# Altium schematic symbol library DF_ESC_Symbol_Library.SchLib: 21 symbols
Pins are listed as number, name and electrical type; pins without a type are passive.

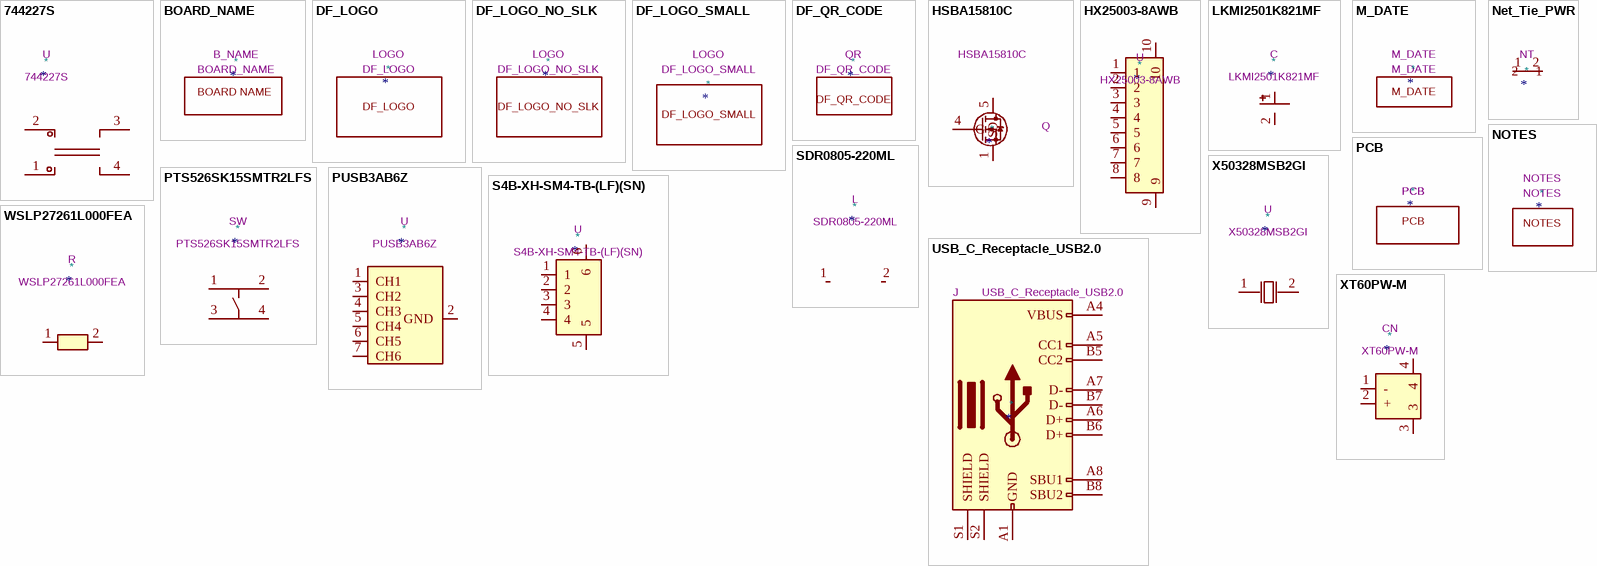
[diagram p0: symbols 744227S to XT60PW-M]

## 744227S
designator *  value 744227S  Reference: U
ki_keywords: C2651119; Footprint: DF_ESC_Footprint_Library:FILTER-SMD_4P-L9.2-W6.0-P2.54-TL; Datasheet: https://atta.szlcsc.com/upload/public/pdf/source/20210606/441BFA25F38C4022E6E8CBF6F4FC27DA.pdf; LCSC: C2651119
pins: 1, 2, 3, 4

## BOARD_NAME
designator *  value BOARD_NAME  Reference: B_NAME
text: BOARD NAME

## DF_LOGO
designator *  value DF_LOGO  Reference: LOGO
Footprint: DF_ESC_Footprint_Library:DF_ESC_REV01_1_LOGO

## DF_LOGO_NO_SLK
designator *  value DF_LOGO_NO_SLK  Reference: LOGO
Footprint: DF_ESC_Footprint_Library:DF_LOGO_NO_SLK

## DF_LOGO_SMALL
designator *  value DF_LOGO_SMALL  Reference: LOGO
Footprint: DF_ESC_Footprint_Library:DF_LOGO_SMALL

## DF_QR_CODE
designator *  value DF_QR_CODE  Reference: QR
Footprint: DF_ESC_Footprint_Library:DF_QR_CODE

## HSBA15810C
designator *  value HSBA15810C  Reference: Q
ki_keywords: C845605; Footprint: DF_ESC_Footprint_Library:PQFN-8_L6.0-W5.0-P1.27-LS6.0-BL; Datasheet: https://item.szlcsc.com/113566.html; LCSC: C845605
pins: 1 S, 2 S hidden, 3 S hidden, 4 G, 5 D, 6 D hidden, 7 D hidden, 8 D hidden, 9 D hidden

## HX25003-8AWB
designator *  value HX25003-8AWB  Reference: U
ki_keywords: C442367; Footprint: DF_ESC_Footprint_Library:CONN-SMD_8P-P2.50_HX25003-8AWB; Datasheet: https://list.szlcsc.com/catalog/11068.html; LCSC: C442367
pins: 1, 2, 3, 4, 5, 6, 7, 8, 9, 10

## LKMI2501K821MF
designator *  value LKMI2501K821MF  Reference: C
Capacitance: 820uF; ki_keywords: C443097; Footprint: DF_ESC_Footprint_Library:CAP-TH_BD18.0-P7.50-D1.2-SIDE; Datasheet: https://item.szlcsc.com/48887.html; LCSC: C443097
pins: 1, 2

## M_DATE
designator *  value M_DATE
Reference: M_DATE

## Net_Tie_PWR
designator *  Reference: NT
Value: Net_Tie_PWR; ki_description: Net Tie 6mm X 2mm; Footprint: DF_ESC_Footprint_Library:NetTie_SMD_Pad_3.00mm
pins: 1, 2

## NOTES
designator *  value NOTES
Reference: NOTES

## PCB
designator *  value PCB
Reference: PCB

## PTS526SK15SMTR2LFS
designator *  value PTS526SK15SMTR2LFS  Reference: SW
ki_keywords: C2689521; Footprint: DF_ESC_Footprint_Library:SW-SMD_4P-L5.2-W5.2-P3.70-LS6.4; Datasheet: https://so.szlcsc.com/global.html?k=C388295&ref=editor; LCSC: C2689521
pins: 1, 2, 3, 4

## PUSB3AB6Z
designator *  value PUSB3AB6Z  Reference: U
ki_keywords: C553550; Footprint: DF_ESC_Footprint_Library:XSON-7_L2.2-W1.2-P0.50-BL; Datasheet: https://item.szlcsc.com/574563.html; LCSC: C553550
pins: 1 CH1, 2 GND, 3 CH2, 4 CH3, 5 CH4, 6 CH5, 7 CH6

## S4B-XH-SM4-TB-(LF)(SN)
designator *  value S4B-XH-SM4-TB-(LF)(SN)  Reference: U
ki_keywords: C161861; Footprint: DF_ESC_Footprint_Library:CONN-SMD_S4B-XH-SM4-TB-LF-SN; Datasheet: https://atta.szlcsc.com/upload/public/pdf/source/20180319/2CDF7DBC8ED0DA278715F3B75F2E61DB.pdf; LCSC: C161861
pins: 1, 2, 3, 4, 5, 6

## SDR0805-220ML
designator *  value SDR0805-220ML  Reference: L
Inductance: 22uH; ki_keywords: C139488; Footprint: DF_ESC_Footprint_Library:IND-SMD_L7.8-W7.8_SDR0805; Datasheet: https://item.szlcsc.com/150809.html; LCSC: C139488
pins: 1, 2

## USB_C_Receptacle_USB2.0
designator *  value USB_C_Receptacle_USB2.0  Reference: J
ki_keywords: usb universal serial bus type-C USB2.0; ki_description: USB 2.0-only Type-C Receptacle connector; ki_fp_filters: USB*C*Receptacle*; Footprint: DF_ESC_Footprint_Library:USB-C_SMD-TYPE-C-31-M-12; Datasheet: https://www.usb.org/sites/default/files/documents/usb_type-c.zip
pins: A1 GND, A4 VBUS, A5 CC1, A6 D+, A7 D-, A8 SBU1, A9 VBUS hidden, A12 GND hidden, B1 GND hidden, B4 VBUS hidden, B5 CC2, B6 D+, B7 D-, B8 SBU2, B9 VBUS hidden, B12 GND hidden, S1 SHIELD, S2 SHIELD

## WSLP27261L000FEA
designator *  value WSLP27261L000FEA  Reference: R
Resistance: 1mΩ; ki_keywords: C500635; Footprint: DF_ESC_Footprint_Library:RES-SMD_L7.0-W6.7; Datasheet: https://item.szlcsc.com/513090.html; LCSC: C500635
pins: 1, 2

## X50328MSB2GI
designator *  value X50328MSB2GI  Reference: U
Frequency: 8MHz; ki_keywords: C115962; Footprint: DF_ESC_Footprint_Library:CRYSTAL-SMD_L5.0-W3.2; Datasheet: https://atta.szlcsc.com/upload/public/pdf/source/20181112/C254399_C5BBDD3824DCEC70A37F176D8FB90B40.pdf; LCSC: C115962
pins: 1 OSC1, 2 OSC2

## XT60PW-M
designator *  value XT60PW-M  Reference: CN
ki_keywords: C98732; Footprint: DF_ESC_Footprint_Library:CONN-TH_XT60PW-M; Datasheet: https://atta.szlcsc.com/upload/public/pdf/source/20180125/C98732_15168617837851301983.pdf; LCSC: C98732
pins: 1 -, 2 +, 3, 4